# Altium schematic symbol library Термисторы.SchLib: 1 symbol
Pins are listed as number, name and electrical type; pins without a type are passive.

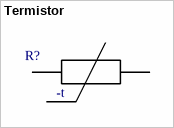
[diagram p0: symbol Termistor]

## Termistor
designator R?  (value not drawn)
pins: 1, 2
text: -t